# Altium footprint library 2020-04-08_20-09-47.PcbLib: 1 footprints
Each footprint in its own frame and in the unit in brackets; x right, y up, seen from the top. Pads: shape width x height; smd on the part's side, far side on the other; paste and mask are expansions set on the pad; w line width, h text height; cw(c..) or ccw(c..) is an arc to the next point about the centre after c.
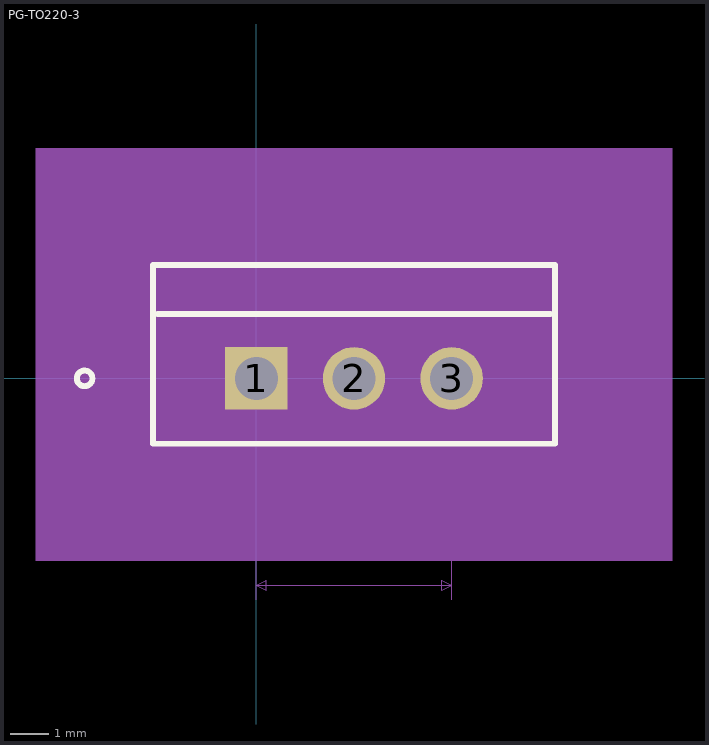
[diagram p0: the footprint, top view; thin cyan lines are the x and y axes]

## PG-TO220-3 [mil]
pads (3):
  rect 64x64 hole 44 mask+0: 1(0,0)
  round 64 hole 44 mask+0: 2(100,0) 3(200,0)
Top Overlay:
  circle w6: c-176,0 r8
  lines w6: -101,66 301,66 ; -106,-67 -106,116 306,116 306,-67 -106,-67
Mechanical 5:
  region: -226,236 426,236 426,-187 -226,-187
Mechanical 7:
  lines w1: -166,-62 -101,-62 ; -166,111 -101,111 -101,176 ; -50,-112 0,-112 ; 0,-227 0,0 0,-127 ; 100,-127 100,0 ; 150,-112 100,-112 ; 200,-227 200,0 366,0 ; 200,111 366,111 ; 301,111 301,176 ; 351,50 351,0 ; 351,161 351,111 ; -151,-62 -146,-52 -156,-52 -151,-62 ; -151,-62 -151,111 ; -151,111 -146,101 -156,101 -151,111 ; -101,161 -91,156 -91,166 -101,161 ; -101,161 301,161 ; 0,-212 10,-217 10,-207 0,-212 ; 0,-212 200,-212 ; 0,-112 -10,-117 -10,-107 0,-112 ; 100,-112 110,-117 110,-107 100,-112 ; 100,0 366,0 ; 100,0 366,0 ; 200,-212 190,-217 190,-207 200,-212 ; 301,161 291,156 291,166 301,161 ; 346,-10 356,-10 ; 346,-10 351,0 ; 346,-10 356,-10 ; 346,-10 351,0 ; 351,0 356,-10 ; 351,0 356,10 346,10 351,0 ; 351,0 351,-50 351,0 ; 351,0 356,-10 ; 351,111 356,121 346,121 351,111
  text "0.173in/4.394mm" at -358.5,12 h25
  text "0.402in/10.211mm" at 0,181 h25
  text "0in/0mm" at 371,-12.5 h25
  text "0.111in/2.819mm" at 371,43 h25
  text "0.1in/2.54mm" at -25,-157 h25
  text "0.2in/5.08mm" at 25,-257 h25
  text "Alt 2 Padstyle: b229_152h76" at -237.5,-542 h50
  text "Alt 1 Padstyle: b152_229h76" at -237.5,-482 h50
  text "Pin 1 Padstyle: s163h112" at -200,-422 h50
  text "Default Padstyle: c163h112" at -225,-362 h50
Mechanical 13:
  circle w0: c-91,-52 r8
  lines w1: -101,61 301,61 ; -101,-62 -101,111 301,111 301,-62 -101,-62
  text "TAB" at 81.25,73.5 h25
Mechanical 15:
  region: 311,121 -111,121 -111,-72 311,-72
  lines w6: -111,-72 311,-72 311,121 -111,121 -111,-72
3D body "PG-TO220-3.step": height 680.98, standoff -235.98, extent -100.99,-87.99 300.99,85
3D body: height 10, standoff 0, extent 0,0 10,10